# Altium footprint library MODULE_SC0918.PcbLib: 2 footprints
Each footprint in its own frame and in the unit in brackets; x right, y up, seen from the top. Pads: shape width x height; smd on the part's side, far side on the other; paste and mask are expansions set on the pad; w line width, h text height; cw(c..) or ccw(c..) is an arc to the next point about the centre after c.
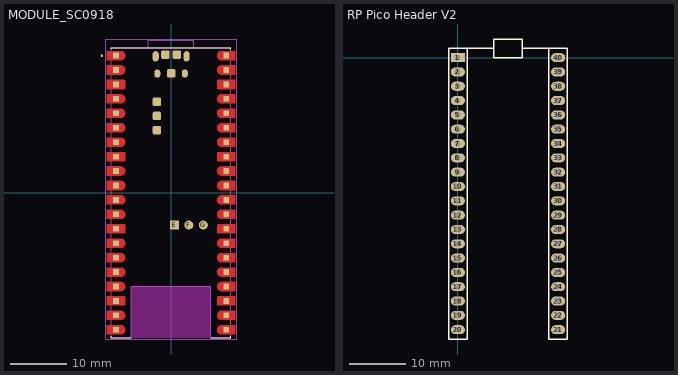
[diagram p0: the footprints below, top view; thin cyan lines are the x and y axes]

## MODULE_SC0918 [mm]
height 3.6
pads (53):
  rect 1x1 smd paste-1 mask+0: 1(-9.69,24.13) 2(-9.69,21.59) 3(-9.69,19.05) 4(-9.69,16.51) 5(-9.69,13.97) 6(-9.69,11.43) 7(-9.69,8.89) 8(-9.69,6.35) 9(-9.69,3.81) 10(-9.69,1.27) 11(-9.69,-1.27) 12(-9.69,-3.81) 13(-9.69,-6.35) 14(-9.69,-8.89) 15(-9.69,-11.43) 16(-9.69,-13.97) 17(-9.69,-16.51) 18(-9.69,-19.05) 19(-9.69,-21.59) 20(-9.69,-24.13) 21(9.69,-24.13) 22(9.69,-21.59) 23(9.69,-19.05) 24(9.69,-16.51) 25(9.69,-13.97) 26(9.69,-11.43) 27(9.69,-8.89) 28(9.69,-6.35) 29(9.69,-3.81) 30(9.69,-1.27) 31(9.69,1.27) 32(9.69,3.81) 33(9.69,6.35) 34(9.69,8.89) 35(9.69,11.43) 36(9.69,13.97) 37(9.69,16.51) 38(9.69,19.05) 39(9.69,21.59) 40(9.69,24.13)
  oval 1.1x1.8 smd: A(-2.725,24) B(2.725,24)
  oval 1.05x1.45 smd: C(-2.425,20.97) D(2.425,20.97)
  rect 1.575x1.575 smd: E(0.584,-5.7)
  round 1.575 smd: F(3.124,-5.7) G(5.664,-5.7)
  rrect40% 1.5x1.5 smd: TP1(0,21) TP2(1,24.3) TP3(-1,24.3) TP4(-2.5,16) TP5(-2.5,13.5) TP6(-2.5,11)
Top Layer:
  drawing of 40 lines, arcs and shapes, not listed
Top Overlay:
  circle w0.2: c-12.19,24.13 r0.1
  lines w0.127: -10.5,-25.25 -10.5,-25.5 -7,-25.5 ; -10.5,25.25 -10.5,25.5 10.5,25.5 10.5,25.25 ; 7,-25.5 10.5,-25.5 10.5,-25.25
Top Paste:
  drawing of 40 lines, arcs and shapes, not listed
Top Solder:
  drawing of 40 lines, arcs and shapes, not listed
Keep-Out Layer:
  board cut-out: 7,-25.5 -7,-25.5 -7,-16.5 7,-16.5
Mechanical 13:
  circle w0.2: c-12.19,24.13 r0.1
  lines w0.127: -4,25.5 -10.5,25.5 -10.5,-25.5 -7,-25.5 -7,-16.5 7,-16.5 7,-25.5 10.5,-25.5 10.5,25.5 4,25.5 ; -4,25.5 -4,26.8 4,26.8 4,25.5 ; -4,25.5 4,25.5
Mechanical 15:
  lines w0.05: -11.54,-25.75 -11.54,27.05 11.54,27.05 11.54,-25.75 -11.54,-25.75
3D body "step_temp.STEP": height 3.6, standoff 0, extent -10.5,-25.5 10.5,26.8

## RP Pico Header V2 [mm]
pads (40):
  rect 2.5x1.6 hole 1: 1(0,0)
  oval 2.5x1.6 hole 1: 2(0,-2.54) 3(0,-5.08) 4(0,-7.62) 5(0,-10.16) 6(0,-12.7) 7(0,-15.24) 8(0,-17.78) 9(0,-20.32) 10(0,-22.86) 11(0,-25.4) 12(0,-27.94) 13(0,-30.48) 14(0,-33.02) 15(0,-35.56) 16(0,-38.1) 17(0,-40.64) 18(0,-43.18) 19(0,-45.72) 20(0,-48.26) 21(17.78,-48.26) 22(17.78,-45.72) 23(17.78,-43.18) 24(17.78,-40.64) 25(17.78,-38.1) 26(17.78,-35.56) 27(17.78,-33.02) 28(17.78,-30.48) 29(17.78,-27.94) 30(17.78,-25.4) 31(17.78,-22.86) 32(17.78,-20.32) 33(17.78,-17.78) 34(17.78,-15.24) 35(17.78,-12.7) 36(17.78,-10.16) 37(17.78,-7.62) 38(17.78,-5.08) 39(17.78,-2.54) 40(17.78,0)
Top Overlay:
  lines w0.254: 6.35,1.651 1.651,1.651 ; 11.43,1.651 16.129,1.651 ; 1.651,1.651 -1.651,1.651 -1.651,-49.911 1.651,-49.911 1.651,1.651 ; 16.129,1.651 19.431,1.651 19.431,-49.911 16.129,-49.911 16.129,1.651 ; 6.35,0 11.43,0 11.43,3.302 6.35,3.302 6.35,0
3D body "female_header_a-bl254-eg-z20d.stp": height 8.75, standoff -2.95, extent -1.25,-49.655 1.25,1.395
3D body "female_header_a-bl254-eg-z20d.stp": height 8.75, standoff -2.95, extent 16.53,-49.655 19.03,1.395
3D body "SC0918.STEP": height 12.6, standoff 9, extent -1.61,-49.63 19.39,2.67